# EAGLE library part PIN_1X24 (library FaBo-PIN)
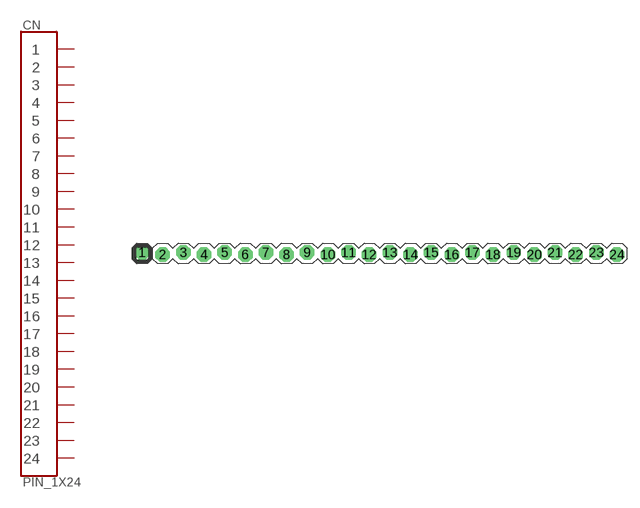
[diagram p7: symbol with the pads of PIN_1X24_SNEAKY; footprint PIN_1X24_SNEAKY]

Designator prefix CN

## PIN_1X24  [PIN_1X24_SNEAKY]
1  1
2  2
3  3
4  4
5  5
6  6
7  7
8  8
9  9
10  10
11  11
12  12
13  13
14  14
15  15
16  16
17  17
18  18
19  19
20  20
21  21
22  22
23  23
24  24

## Footprint PIN_1X24_SNEAKY (pad centres in mm)
drill 1 pad 1.778 octagon: 1 -29.21,0.127; 2 -26.67,-0.127; 3 -24.13,0.127; 4 -21.59,-0.127; 5 -19.05,0.127; 6 -16.51,-0.127; 7 -13.97,0.127; 8 -11.43,-0.127; 9 -8.89,0.127; 10 -6.35,-0.127; 11 -3.81,0.127; 12 -1.27,-0.127; 13 1.27,0.127; 14 3.81,-0.127; 15 6.35,0.127; 16 8.89,-0.127; 17 11.43,0.127; 18 13.97,-0.127; 19 16.51,0.127; 20 19.05,-0.127; 21 21.59,0.127; 22 24.13,-0.127; 23 26.67,0.127; 24 29.21,-0.127